# Altium footprint library SHDRRA3W80P0X350_1X3_1190X920X700P.PcbLib: 1 footprints
Each footprint in its own frame and in the unit in brackets; x right, y up, seen from the top. Pads: shape width x height; smd on the part's side, far side on the other; paste and mask are expansions set on the pad; w line width, h text height; cw(c..) or ccw(c..) is an arc to the next point about the centre after c.
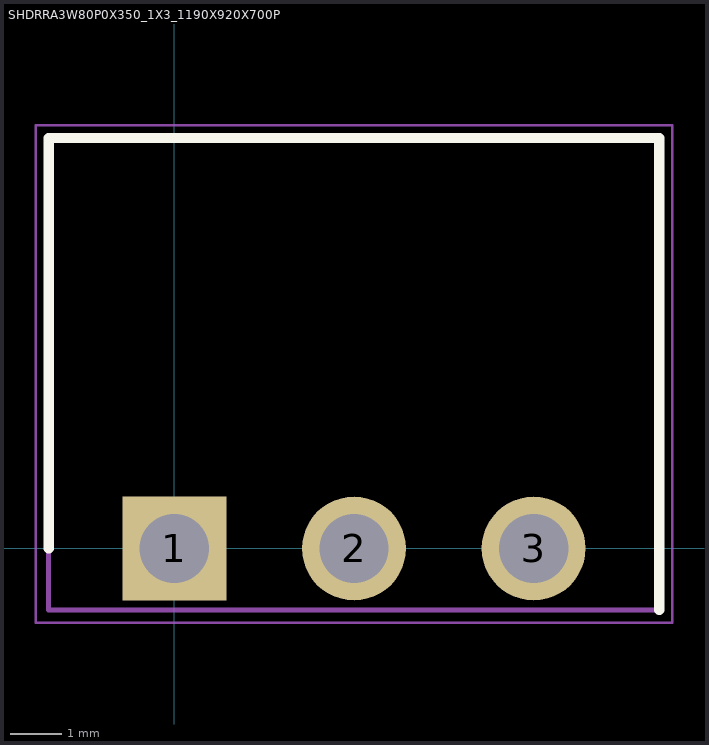
[diagram p0: the footprint, top view; thin cyan lines are the x and y axes]

## SHDRRA3W80P0X350_1X3_1190X920X700P [mm]
pads (3):
  rect 2.025x2.025 / inner round 2.025 / far side rect 2.025x2.025 hole 1.35: 1(0,0)
  round 2.025 hole 1.35: 2(3.5,0) 3(7,0)
Top Overlay:
  lines w0.2: -2.45,0 -2.45,8 9.45,8 9.45,-1.2
Mechanical 15:
  lines w0.1: -2.45,-1.2 9.45,-1.2 9.45,8 -2.45,8 -2.45,-1.2
Mechanical 20:
  lines w0.05: -2.7,-1.45 -2.7,8.25 9.7,8.25 9.7,-1.45 -2.7,-1.45
3D body "TB3_35.step": height 7.7, standoff -3.6, extent -2.248,-1.251 9.652,27.159